# Altium footprint library TO-126.PcbLib: 1 footprints
Each footprint in its own frame and in the unit in brackets; x right, y up, seen from the top. Pads: shape width x height; smd on the part's side, far side on the other; paste and mask are expansions set on the pad; w line width, h text height; cw(c..) or ccw(c..) is an arc to the next point about the centre after c.
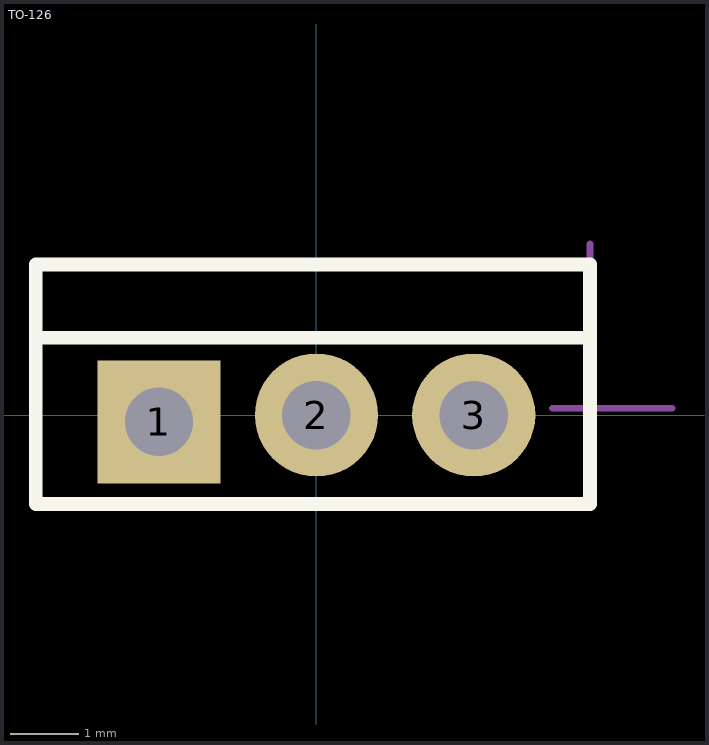
[diagram p0: the footprint, top view; thin cyan lines are the x and y axes]

## TO-126 [mm]
height 1.1
pads (3):
  rect 1.8x1.8 hole 1: 1(-2.3,-0.1)
  round 1.8 hole 1: 2(0,0) 3(2.3,0)
Top Overlay:
  lines w0.2: -4.1,1.13 4,1.13 ; -4.1,-1.3 -4.1,2.2 4,2.2 4,-1.3 -4.1,-1.3
Top Assembly:
  lines w0.1: 3.45,0.1 5.2,0.1 ; 3.45,2.2 -4.1,2.2 -4.1,-1.3 4,-1.3 4,2.5
  text "'.Designator'" at 0,0 h0.7
3D body "ALSRobot-TO-126.STEP": height 20.94, standoff -6.86, extent -4,-1.2 4,2.05